# EAGLE library part HDSM-281C (library HDSM-281C)
BROADCOM LIMITED - HDSM-281C - LED DISPLAY, SMD, 7MM, RED, CA Source: Datasheet <https://datasheet.datasheetarchive.com/originals/distributors/SFDatasheet-4/sf-00083599.pdf>
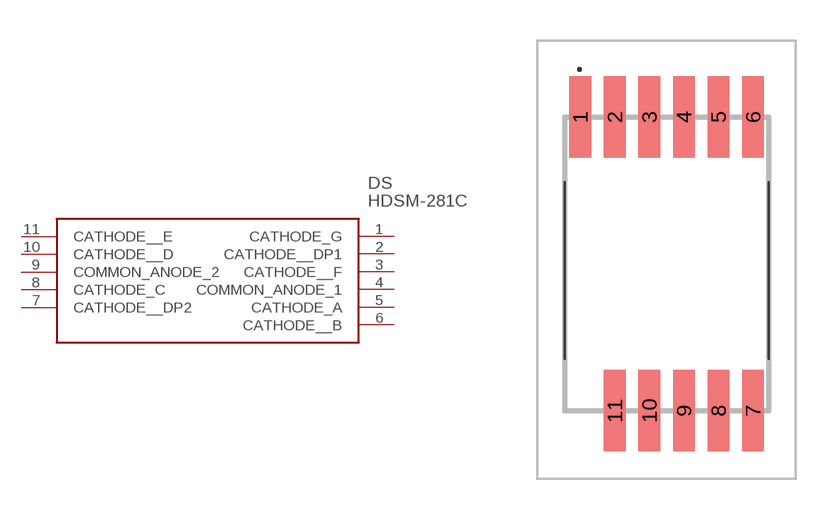
[diagram p0: symbol with the pads of HDSM283L; footprint HDSM283L]

Designator prefix DS

## HDSM-281C (Description: BROADCOM LIMITED - HDSM-281C - LED DISPLAY, SMD, 7MM, RED, CA; Height: 3.15mm; Manufacturer_Name: Avago Technologies; Manufacturer_Part_Number: HDSM-281C; Mouser_Part_Number: 630-HDSM-281C; Mouser_Price-Stock: https://www.mouser.co.uk/ProductDetail/Broadcom-Avago/HDSM-281C?qs=NCV3C3qdz%2FDIiI0K2Ja0mg%3D%3D)  [HDSM283L]
1  CATHODE_G
2  CATHODE__DP1
3  CATHODE__F
4  COMMON_ANODE_1
5  CATHODE_A
6  CATHODE__B
7  CATHODE__DP2
8  CATHODE_C
9  COMMON_ANODE_2
10  CATHODE__D
11  CATHODE__E

## Footprint HDSM283L (pad centres in mm)
HDSM-283L-2
smd 0.8 x 3: 1 -3.175,5.4; 2 -1.905,5.4; 3 -0.635,5.4; 4 0.635,5.4; 5 1.905,5.4; 6 3.175,5.4; 7 3.175,-5.4; 8 1.905,-5.4; 9 0.635,-5.4; 10 -0.635,-5.4; 11 -1.905,-5.4